# EAGLE library part DA07 (library switch-dil-rp)
DIL/CODE SWITCH
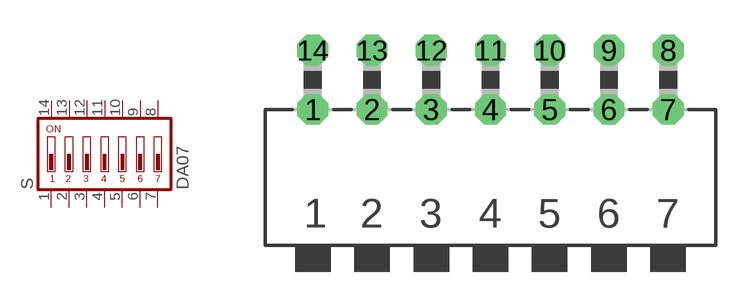
[diagram p22: symbol with the pads of DA-07; footprint DA-07]

Designator prefix S

## DA07 (MPN: MCDA07; OC_FARNELL: 1522002; OC_NEWARK: 74M2974)  [DA-07]
1  1  pas
2  2  pas
3  3  pas
4  4  pas
5  5  pas
6  6  pas
7  7  pas
8  8  pas
9  9  pas
10  10  pas
11  11  pas
12  12  pas
13  13  pas
14  14  pas

## Footprint DA-07 (pad centres in mm)
DIL/CODE SWITCH Mors distributor Buerklin, 17G590
drill 0.813 octagon: 1 -7.62,-1.27; 2 -5.08,-1.27; 3 -2.54,-1.27; 4 0,-1.27; 5 2.54,-1.27; 6 5.08,-1.27; 7 7.62,-1.27; 8 7.62,1.27; 9 5.08,1.27; 10 2.54,1.27; 11 0,1.27; 12 -2.54,1.27; 13 -5.08,1.27; 14 -7.62,1.27